# EAGLE library part SN74HC4060DR (library aoba)
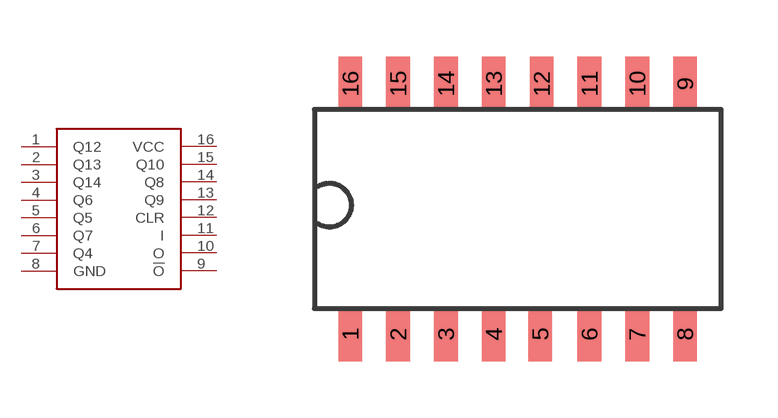
[diagram p1: symbol with the pads of SOP16; footprint SOP16]

Designator prefix -

## SN74HC4060DR  [SOP16]
1  Q12
2  Q13
3  Q14
4  Q6
5  Q5
6  Q7
7  Q4
8  GND  pwr
9  !O
10  O
11  I
12  CLR
13  Q9
14  Q8
15  Q10
16  VCC  pwr

## Footprint SOP16 (pad centres in mm)
smd 0.63 x 1.45: 1 -4.445,-3.325; 2 -3.175,-3.325; 3 -1.905,-3.325; 4 -0.635,-3.325; 5 0.6,-3.325; 6 1.905,-3.325; 7 3.175,-3.325; 8 4.445,-3.325; 9 4.445,3.325; 10 3.175,3.325; 11 1.905,3.325; 12 0.635,3.325; 13 -0.635,3.325; 14 -1.905,3.325; 15 -3.175,3.325; 16 -4.445,3.325